# Altium footprint library Buzzer.PcbLib: 2 footprints
Each footprint in its own frame and in the unit in brackets; x right, y up, seen from the top. Pads: shape width x height; smd on the part's side, far side on the other; paste and mask are expansions set on the pad; w line width, h text height; cw(c..) or ccw(c..) is an arc to the next point about the centre after c.
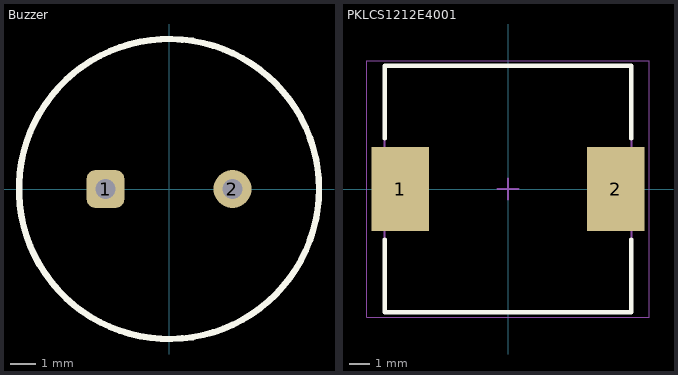
[diagram p0: the footprints below, top view; thin cyan lines are the x and y axes]

## Buzzer [mil]
pads (2):
  rrect50% 60x60 hole 31.5: 1(-100,0)
  round 60 hole 31.5: 2(100,0)
Top Overlay:
  circle w10: c0,0 r236.22

## PKLCS1212E4001 [mm] "Murata piezoelectric sound component, 2-Leads, Body 12,00x12,00mm, IPC Medium Density"
height 3
pads (2):
  rect 2.8x4.1 smd: 1(-5.25,0) 2(5.25,0)
Top Overlay:
  lines w0.2: -6,-2.45 -6,-6 6,-6 6,-2.45 ; -6,2.45 -6,6 6,6 6,2.45
Mechanical 13:
  lines w0.1: -6,-6 -6,6 6,6 6,-6 -6,-6
Mechanical 15:
  lines w0.05: -6.875,-6.25 -6.875,6.25 6.875,6.25 6.875,-6.25 -6.875,-6.25
  lines w0.1: -0.5,0 0.5,0 ; 0,-0.5 0,0.5
3D body: height 3, standoff 0, extent -6,-6 6,6